# EAGLE library part PIC_NIXIE_IF (library PartsForProto)
PIC GPIO インターフェース
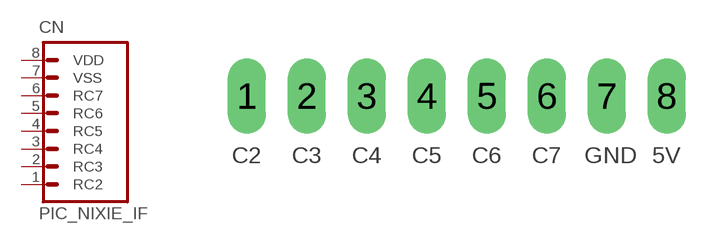
[diagram p20: symbol with the pads of PIC_IF_NIXIE_8PIN; footprint PIC_IF_NIXIE_8PIN]

Designator prefix CN

## PIC_NIXIE_IF  [PIC_IF_NIXIE_8PIN]
1  RC2
2  RC3
3  RC4
4  RC5
5  RC6
6  RC7
7  VSS  pas
8  VDD  pas

## Footprint PIC_IF_NIXIE_8PIN (pad centres in mm)
PIN HEADER
drill 1 pad 1.6 long: 1 0,0; 2 2.54,0; 3 5.08,0; 4 7.62,0; 5 10.16,0; 6 12.7,0; 7 15.24,0; 8 17.78,0